# EAGLE library part MNR35J5RJ (library Rohm)
Rohm Compact 8-element Chip Resistor Network MNR35J5RJ series 8-element with 2 common nodes 56 to 100k 50 V J (+/- 5%) 3216x5 (1206) 0.063/Element
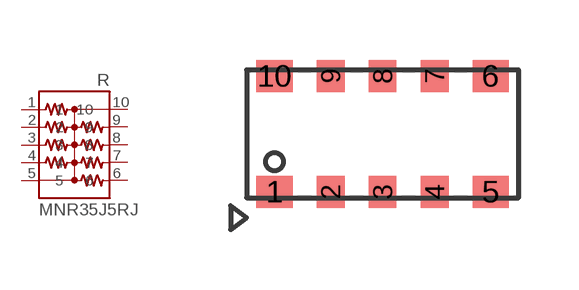
[diagram p0: symbol with the pads of 3216X5; footprint 3216X5]

Designator prefix R

## MNR35J5RJ  [3216X5]
1  1  pas
2  2  pas
3  3  pas
4  4  pas
5  5  pas
6  6  pas
7  7  pas
8  8  pas
9  9  pas
10  10  pas

## Footprint 3216X5 (pad centres in mm)
smd 0.9 x 0.8: 1 -2.7,-1.45; 5 2.7,-1.45; 6 2.7,1.45; 10 -2.7,1.45
smd 0.7 x 0.8: 2 -1.3,-1.45; 3 0,-1.45; 4 1.3,-1.45; 7 1.3,1.45; 8 0,1.45; 9 -1.3,1.45